# EAGLE library part OPEN-BLDC_BD (library power_control)
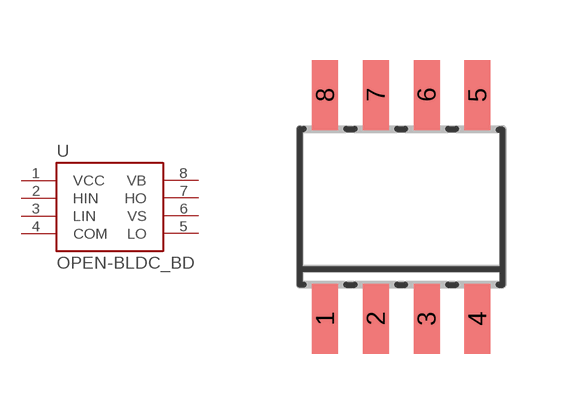
[diagram p0: symbol with the pads of OPEN-BLDC_SO8; footprint OPEN-BLDC_SO8]

Designator prefix U

## OPEN-BLDC_BD_IR2101  [OPEN-BLDC_SO8]
1  VCC
2  HIN
3  LIN
4  COM
5  LO
6  VS
7  HO
8  VB

## OPEN-BLDC_BD_UCC27200  [OPEN-BLDC_SO8]
1  VCC
2  VB
3  HO
4  VS
5  HIN
6  LIN
7  COM
8  LO

## Footprint OPEN-BLDC_SO8 (pad centres in mm)
Complient to the IPC7351 standard (SOIC127P600X175-8M)
smd 0.65 x 1.75: 1 -1.905,-2.8; 2 -0.635,-2.8; 3 0.635,-2.8; 4 1.905,-2.8; 5 1.905,2.8; 6 0.635,2.8; 7 -0.635,2.8; 8 -1.905,2.8